# Altium footprint library Passives-SMD_R.PCBLIB: 10 footprints
Each footprint in its own frame and in the unit in brackets; x right, y up, seen from the top. Pads: shape width x height; smd on the part's side, far side on the other; paste and mask are expansions set on the pad; w line width, h text height; cw(c..) or ccw(c..) is an arc to the next point about the centre after c.
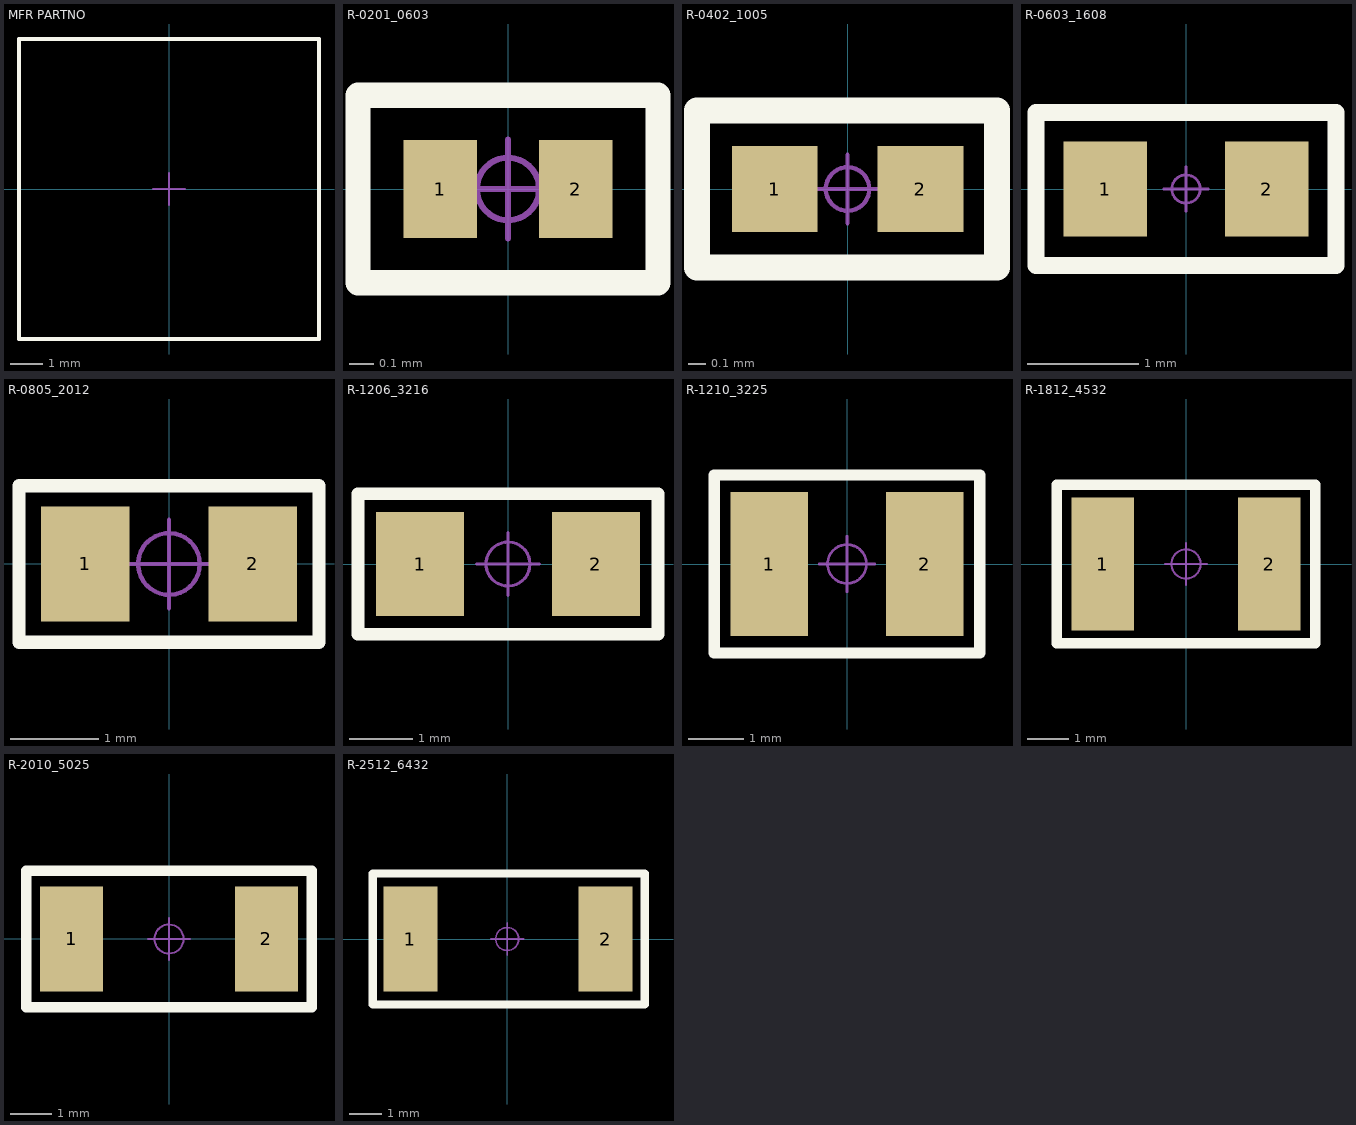
[diagram p0: the footprints below, top view; thin cyan lines are the x and y axes]

## MFR PARTNO [mm] "记得设置高度"
Top Overlay:
  lines w0.127: -4.7,-4.7 4.7,-4.7 4.7,4.7 -4.7,4.7 -4.7,-4.7
Top 元件外形:
  lines w0.127: -4.7,-4.7 -4.7,4.7 4.7,4.7 4.7,-4.7 -4.7,-4.7
Top 中心点:
  lines w0.051: -0.5,0 0.5,0 ; 0,-0.5 0,0.5

## R-0201_0603 [mm]
pads (2):
  rect 0.3x0.4 smd: 1(-0.275,0) 2(0.275,0)
Top Overlay:
  lines w0.102: -0.61,-0.381 0.61,-0.381 0.61,0.381 -0.61,0.381 -0.61,-0.381
Top 中心点:
  circle w0.025: c0,0 r0.127
  lines w0.025: -0.2,0 0.2,0 ; 0,-0.2 0,0.2
3D body "R0201.STEP": height 0.23, standoff 0, extent -0.3,-0.15 0.3,0.15

## R-0402_1005 [mm]
pads (2):
  rect 0.5x0.5 smd: 1(-0.425,0) 2(0.425,0)
Top Overlay:
  lines w0.152: -0.878,-0.457 -0.878,0.457 0.872,0.457 0.872,-0.457 -0.878,-0.457
Top 中心点:
  circle w0.025: c0,0 r0.127
  lines w0.025: -0.2,0 0.2,0 ; 0,-0.2 0,0.2
3D body "R0402.STEP": height 0.3, standoff 0, extent -0.5,-0.25 0.5,0.25

## R-0603_1608 [mm]
pads (2):
  rect 0.75x0.85 smd: 1(-0.725,0) 2(0.725,0)
Top Overlay:
  lines w0.152: -1.346,-0.686 -1.346,0.686 1.346,0.686 1.346,-0.686 -1.346,-0.686
Top 中心点:
  circle w0.025: c0,0 r0.127
  lines w0.025: -0.2,0 0.2,0 ; 0,-0.2 0,0.2
3D body "R0603-2.stp": height 0.4, standoff 0, extent -0.8,-0.4 0.8,0.4

## R-0805_2012 [mm]
pads (2):
  rect 1x1.3 smd: 1(-0.95,0) 2(0.95,0)
Top Overlay:
  lines w0.152: -1.702,-0.889 1.702,-0.889 1.702,0.889 -1.702,0.889 -1.702,-0.889
Top 中心点:
  circle w0.05: c0,0 r0.35
  lines w0.05: -0.5,0 0.5,0 ; 0,-0.5 0,0.5
3D body "R0805-2.stp": height 0.5, standoff 0, extent -1,-0.625 1,0.625

## R-1206_3216 [mm]
pads (2):
  rect 1.4x1.65 smd: 1(-1.4,0) 2(1.4,0)
Top Overlay:
  lines w0.203: -2.388,-1.118 -2.388,1.118 2.388,1.118 2.388,-1.118 -2.388,-1.118
Top 中心点:
  circle w0.05: c0,0 r0.35
  lines w0.05: -0.5,0 0.5,0 ; 0,-0.5 0,0.5
3D body "R1206-2.stp": height 0.56, standoff 0, extent -1.6,-0.8 1.6,0.8

## R-1210_3225 [mm]
pads (2):
  rect 1.4x2.6 smd: 1(-1.4,0) 2(1.4,0)
Top Overlay:
  lines w0.203: -2.388,-1.6 2.388,-1.6 2.388,1.6 -2.388,1.6 -2.388,-1.6
Top 中心点:
  circle w0.05: c0,0 r0.35
  lines w0.05: -0.5,0 0.5,0 ; 0,-0.5 0,0.5
3D body "R1210-2.stp": height 0.56, standoff 0, extent -1.6,-1.25 1.6,1.25

## R-1812_4532 [mm]
pads (2):
  rect 1.5x3.2 smd: 1(-2,0) 2(2,0)
Top Overlay:
  lines w0.254: -1.27,1.905 1.016,1.905 3.1,1.905 3.1,-1.905 1.016,-1.905 -1.016,-1.905 -3.1,-1.905 -3.1,1.905 -1.016,1.905
Top 中心点:
  circle w0.05: c0,0 r0.35
  lines w0.05: -0.5,0 0.5,0 ; 0,-0.5 0,0.5
3D body "R1812-2.stp": height 0.56, standoff 0, extent -2.25,-1.6 2.25,1.6

## R-2010_5025 [mm]
pads (2):
  rect 1.52x2.54 smd: 1(-2.35,0) 2(2.35,0)
Top Overlay:
  lines w0.254: -3.45,-1.651 -3.45,1.651 1.27,1.651 3.45,1.651 3.45,-1.651 1.27,-1.651 -3.45,-1.651
Top 中心点:
  circle w0.05: c0,0 r0.35
  lines w0.05: -0.5,0 0.5,0 ; 0,-0.5 0,0.5
3D body "R2010-2.stp": height 0.56, standoff 0, extent -2.5,-1.25 2.5,1.25

## R-2512_6432 [mm]
pads (2):
  rect 1.65x3.2 smd: 1(-2.95,0) 2(3,0)
Top Overlay:
  lines w0.254: -4.1,-2 4.2,-2 4.2,2 -4.1,2 -4.1,-2
Top 中心点:
  circle w0.05: c0,0 r0.35
  lines w0.05: -0.5,0 0.5,0 ; 0,-0.5 0,0.5
3D body "R2512-2.stp": height 0.56, standoff 0, extent -3.2,-1.6 3.2,1.6